# Altium integrated library Miscellaneous_Lib1.IntLib: 3 symbols
Pins are listed as number, name and electrical type; pins without a type are passive.

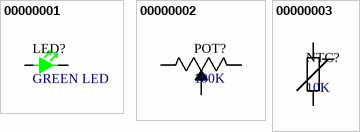
[diagram p0: symbols 00000001 to 00000003]

## 00000001
designator LED?, comment GREEN LED
LED GREEN DIFFUSED 0603 SMD; Supplier 1: Avnet; Supplier Part Number 1: Q65111A3964; ComponentLink1Description: Digikey; ComponentLink1URL: https://www.digikey.com/en/products/detail/ams-osram-usa-inc/LG-Q396-PS-35/5249855
footprint DIOC1608X04N (Chip Diode, 2-Leads, Body 1.60x0.80mm, IPC Medium Density)
pins: 1, 2

## 00000002
designator POT?, comment 100K
TRIMMER 100K OHM 0.1W J LEAD TOP; ComponentLink1Description: DigiKey; ComponentLink1URL: https://www.digikey.com/en/products/detail/bourns-inc/TC33X-2-104E/612859; Value: 100K; Supplier 1: Arrow Electronics; Supplier Part Number 1: TC33X-2-104E
footprint TC33X-2_POT (100K_potentiometer_SMD)
pins: 1, 2, 3

## 00000003
designator NTC?, comment 10K
THERMISTOR NTC 10KOHM 3380K 0603; value: 10K; Supplier 1: Arrow Electronics; Supplier Part Number 1: NCP18XH103F03RB; ComponentLink1Description: Digikey; ComponentLink1URL: https://www.digikey.com/en/products/detail/murata-electronics/NCU18XH103F6SRB/7243451
footprint SMD_0603
pins: 1, 2